# Altium schematic symbol library Switch Schematics.SchLib: 6 symbols
Pins are listed as number, name and electrical type; pins without a type are passive.

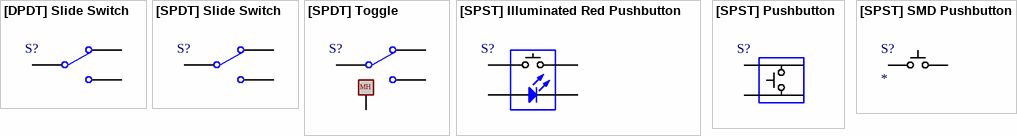
[diagram p0: symbols [DPDT] Slide Switch to [SPST] SMD Pushbutton]

## [DPDT] Slide Switch
designator S?, comment DPDT  (value not drawn)
SK-22D01-MG 5 NS; Supplier 1: DigiKey; Supplier Part Number 1: 108-SK-22D01-MG5NS-ND
pins: 1, 2, 3

## [SPDT] Slide Switch
designator S?  (value not drawn)
09.03290.01; Supplier 1: DigiKey; Supplier Part Number 1: 1948-1087-ND
footprint [SPDT] Slide Switch
pins: 1, 2, 3

## [SPDT] Toggle
designator S?  (value not drawn)
ANT11TFHQE; Supplier 1: DigiKey; Supplier Part Number 1: 2449-ANT11TFHQE-ND
footprint [SPDT] Toggle (ANT11TFHQE)
pins: 1, 2, 3, X Mount Hole
text: MH

## [SPST] Illuminated Red Pushbutton
designator S?  (value not drawn)
B3W-9010-R1N; Supplier 1: DigiKey; Supplier Part Number 1: SW1111-ND
footprint [SPST] Illuminated Red Pushbutton
pins: 1 NO_1, 2 COM_1, 5 A, 6 K

## [SPST] Pushbutton
designator S?, comment Standard pushbutton  (value not drawn)
Supplier 1: DigiKey; Supplier Part Number 1: 450-1650-ND
footprint [SPST] Pushbutton ((Regular pushbutton))
pins: 1 (power), 2 (power)

## [SPST] SMD Pushbutton
designator S?
PTS815SJM250SMTRLFS; Supplier 1: DigiKey; Supplier Part Number 1: CKN12215-6-ND
footprint [SPST] SMD Pushbutton (PTS815SJM250SMTRLFS)
pins: 1 (power), 2 (power)